# EAGLE library part HF15H (library xess)
High-density, 15-pin SUB-D connector.
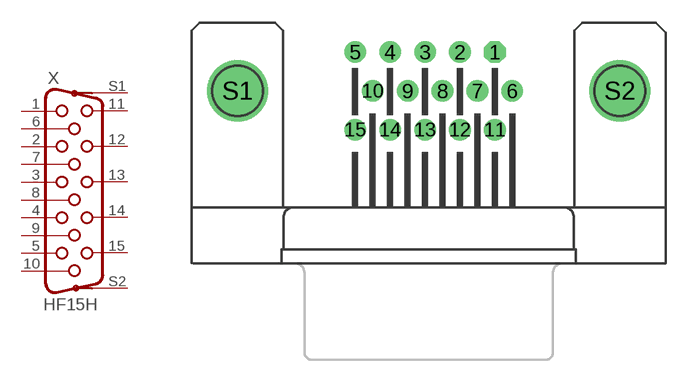
[diagram p35: symbol with the pads of HDF15H; footprint HDF15H]

Designator prefix X

## HF15H (MANF: Kycon; MANF#: K66XHT-E15S-N; MOUSER#: 806-K66XHTE15SNVESA)  [HDF15H]
1  1  pas
2  2  pas
3  3  pas
4  4  pas
5  5  pas
6  6  pas
7  7  pas
8  8  pas
9  9  pas
10  10  pas
11  11  pas
12  12  pas
13  13  pas
14  14  pas
15  15  pas
S1  S1  pwr
S2  S2  pwr

## Footprint HDF15H (pad centres in mm)
drill 0.9 octagon: 1 4.329,2.54
drill 0.9 round: 2 2.043,2.54; 3 -0.243,2.54; 4 -2.529,2.54; 5 -4.815,2.54; 6 5.472,0; 7 3.186,0; 8 0.9,0; 9 -1.386,0; 10 -3.672,0; 11 4.329,-2.54; 12 2.043,-2.54; 13 -0.243,-2.54; 14 -2.529,-2.54; 15 -4.815,-2.54
drill 3 round: S1 -12.499,0; S2 12.499,0